# EAGLE library part SM06B-SRSS-TB(LF)(SN) (library J-JST-SM06B-SRSS-TB(LF)(SN)-1mm-smt-6pin)
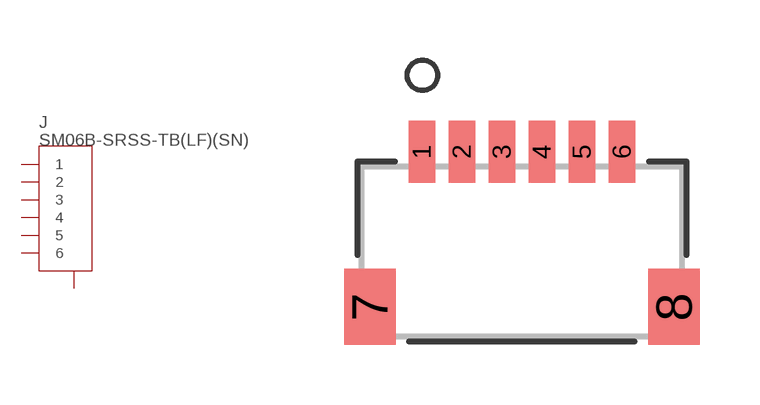
[diagram p0: symbol with the pads of CONN_SM06B-SRSS-TB_JST; footprint CONN_SM06B-SRSS-TB_JST]

Designator prefix J

## SM06B-SRSS-TB(LF)(SN) (BUILT_BY: EMA_Justin; COPYRIGHT: Copyright (C) 2018 Accelerated Designs. All rights reserved; DATASHEET: http://www.jst-mfg.com/product/pdf/eng/eSR.pdf; MANUFACTURER_PART_NUMBER: SM06B-SRSS-TB(LF)(SN); SOURCELIBRARY: JST_2020-02-24; VENDOR: JST)  [CONN_SM06B-SRSS-TB_JST]
1  1  pas
2  2  pas
3  3  pas
4  4  pas
5  5  pas
6  6  pas
7  7  pas
8  7  pas

## Footprint CONN_SM06B-SRSS-TB_JST (pad centres in mm)
smd 0.66 x 1.549: 1 -2.5,2.507; 2 -1.5,2.507; 3 -0.5,2.507; 4 0.5,2.507; 5 1.5,2.507; 6 2.5,2.507
smd 1.295 x 1.905: 7 -3.8,-1.368; 8 3.8,-1.368